# EAGLE library part ADL5385 (library Analog Devices)
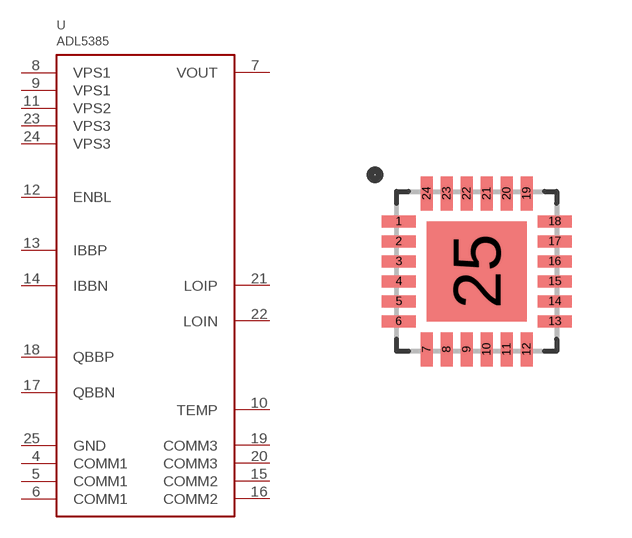
[diagram p23: symbol with the pads of QFN24; footprint QFN24]

Designator prefix U

## ADL5385  [QFN24]
4  COMM1
5  COMM1
6  COMM1
7  VOUT
8  VPS1
9  VPS1
10  TEMP
11  VPS2
12  ENBL
13  IBBP
14  IBBN
15  COMM2
16  COMM2
17  QBBN
18  QBBP
19  COMM3
20  COMM3
21  LOIP
22  LOIN
23  VPS3
24  VPS3
25  GND

## Footprint QFN24 (pad centres in mm)
smd 0.85 x 0.3: 1 -1.95,1.25; 2 -1.95,0.75; 3 -1.95,0.25; 4 -1.95,-0.25; 5 -1.95,-0.75; 6 -1.95,-1.25; 13 1.95,-1.25; 14 1.95,-0.75; 15 1.95,-0.25; 16 1.95,0.25; 17 1.95,0.75; 18 1.95,1.25
smd 0.3 x 0.85: 7 -1.25,-1.95; 8 -0.75,-1.95; 9 -0.25,-1.95; 10 0.25,-1.95; 11 0.75,-1.95; 12 1.25,-1.95; 19 1.25,1.95; 20 0.75,1.95; 21 0.25,1.95; 22 -0.25,1.95; 23 -0.75,1.95; 24 -1.25,1.95
smd 2.5 x 2.5: 25 0,0